# Altium footprint library Connectors_2mm.PcbLib: 81 footprints (part 1 of 6)
Each footprint in its own frame and in the unit in brackets; x right, y up, seen from the top. Pads: shape width x height; smd on the part's side, far side on the other; paste and mask are expansions set on the pad; w line width, h text height; cw(c..) or ccw(c..) is an arc to the next point about the centre after c.
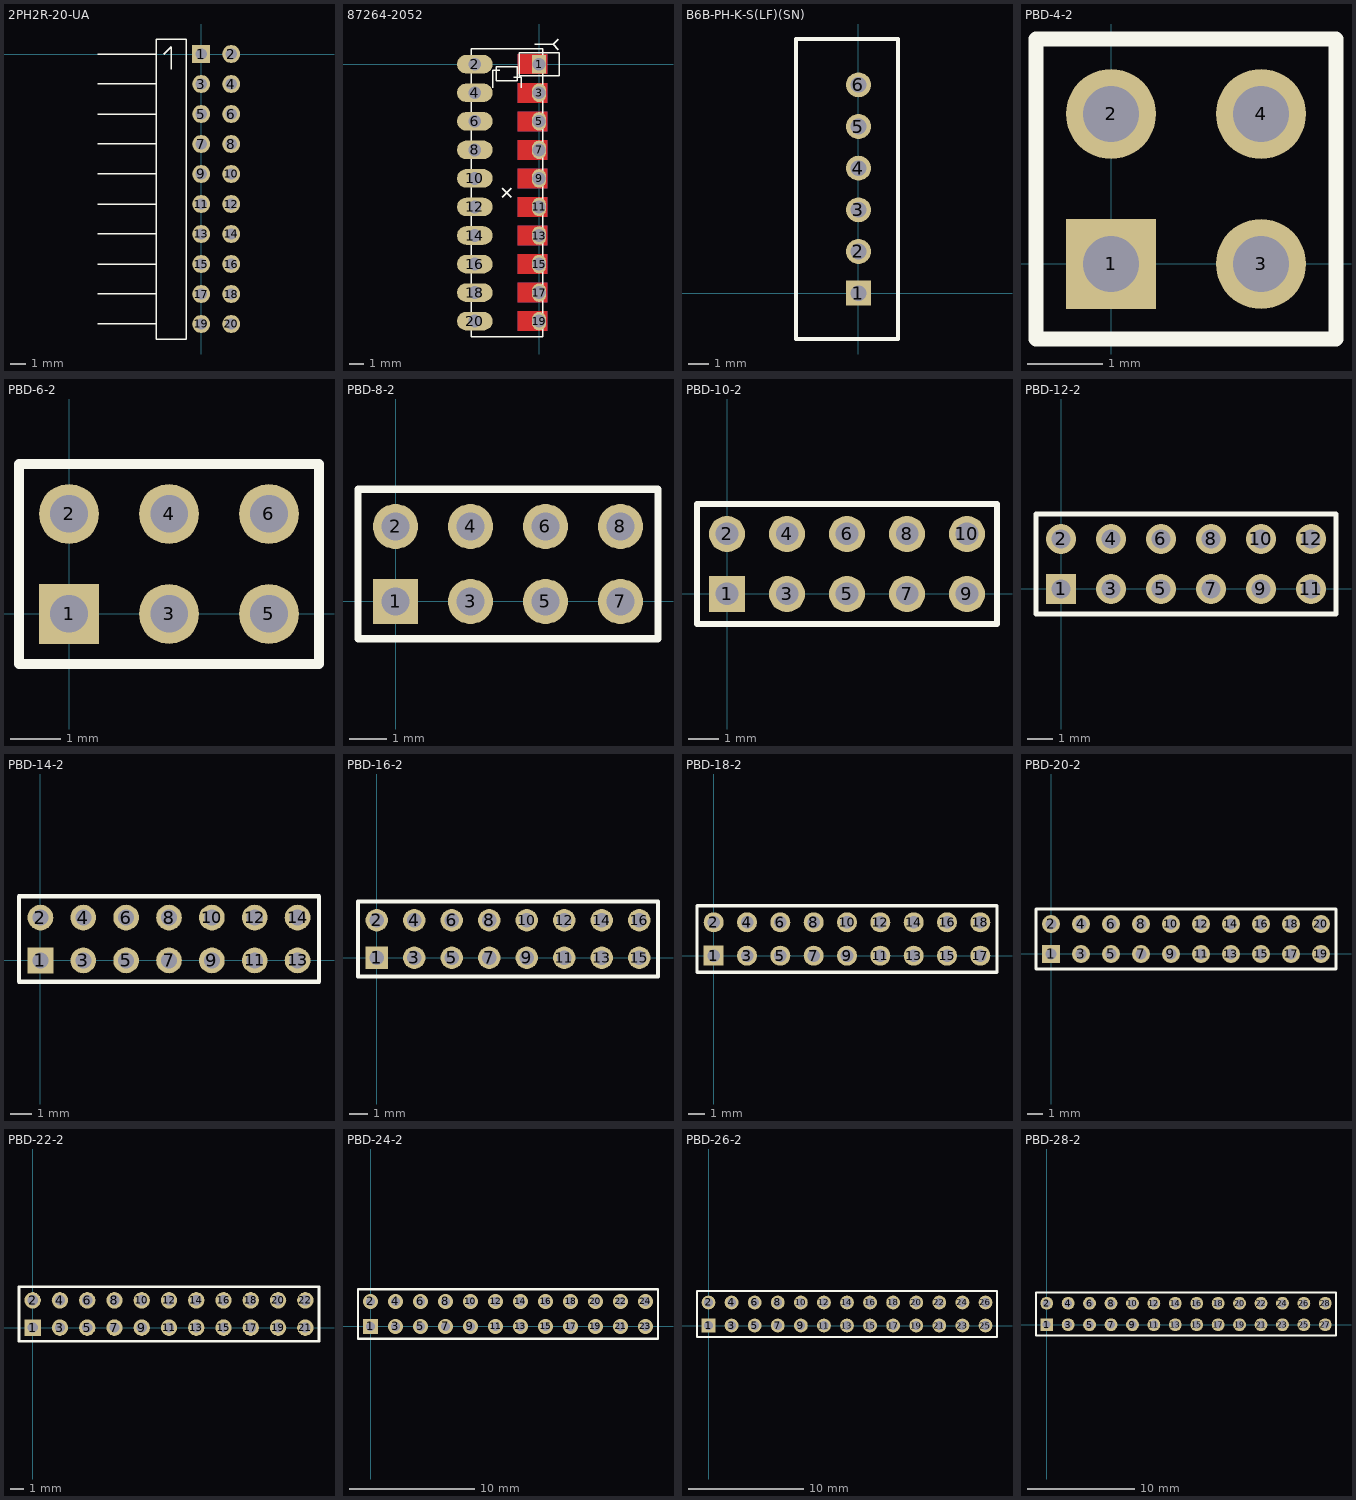
[diagram p0: the footprints below, top view; thin cyan lines are the x and y axes]

## 2PH2R-20-UA [mm]
pads (20):
  rect 1.2x1.2 hole 0.75: 1(0,0)
  round 1.2 hole 0.75: 2(2,0) 3(0,-2) 4(2,-2) 5(0,-4) 6(2,-4) 7(0,-6) 8(2,-6) 9(0,-8) 10(2,-8) 11(0,-10) 12(2,-10) 13(0,-12) 14(2,-12) 15(0,-14) 16(2,-14) 17(0,-16) 18(2,-16) 19(0,-18) 20(2,-18)
Top Overlay:
  lines w0.1: -6.9,-18 -3,-18 ; -6.9,-16 -3,-16 ; -6.9,-14 -3,-14 ; -6.9,-12 -3,-12 ; -6.9,-10 -3,-10 ; -6.9,-8 -3,-8 ; -6.9,-6 -3,-6 ; -6.9,-4 -3,-4 ; -6.9,-2 -3,-2 ; -6.9,0 -3,0 ; -2.5,0 -2,0.5 -2,-1 ; -3,-19 -3,1 -1,1 -1,-19 -3,-19
3D body "2PH2R-20-UA.STEP": height 4, standoff -2.8, extent -6.9,-19 2.25,1

## 87264-2052 [mm]
pads (20):
  rect 1x1.3 hole 0.9: 1(0,0)
  oval 2.5x1.3 hole 0.9: 2(-4.5,0) 4(-4.5,-2) 6(-4.5,-4) 8(-4.5,-6) 10(-4.5,-8) 12(-4.5,-10) 14(-4.5,-12) 16(-4.5,-14) 18(-4.5,-16) 20(-4.5,-18)
  oval 1x1.3 hole 0.9: 3(0,-2) 5(0,-4) 7(0,-6) 9(0,-8) 11(0,-10) 13(0,-12) 15(0,-14) 17(0,-16) 19(0,-18)
Top Layer:
  rectangle: -1.5,-18.7 0.6,-17.3
  rectangle: -1.5,-16.7 0.6,-15.3
  rectangle: -1.5,-14.7 0.6,-13.3
  rectangle: -1.5,-12.7 0.6,-11.3
  rectangle: -1.5,-10.7 0.6,-9.3
  rectangle: -1.5,-8.7 0.6,-7.3
  rectangle: -1.5,-6.7 0.6,-5.3
  rectangle: -1.5,-4.7 0.6,-3.3
  rectangle: -1.5,-0.7 0.6,0.7
  rectangle: -1.5,-2.7 0.6,-1.3
Bottom Layer:
  rectangle: -1.5,-18.7 0.6,-17.3
  rectangle: -1.5,-16.7 0.6,-15.3
  rectangle: -1.5,-14.7 0.6,-13.3
  rectangle: -1.5,-12.7 0.6,-11.3
  rectangle: -1.5,-10.7 0.6,-9.3
  rectangle: -1.5,-8.7 0.6,-7.3
  rectangle: -1.5,-6.7 0.6,-5.3
  rectangle: -1.5,-4.7 0.6,-3.3
  rectangle: -1.5,-0.7 0.6,0.7
  rectangle: -1.5,-2.7 0.6,-1.3
Top Overlay:
  lines w0.1: -3.26,-1.665 -3.26,-0.415 -2.76,-0.415 ; -2.568,-9.317 -1.933,-8.682 ; -2.568,-8.682 -1.933,-9.317 ; -1.76,-0.915 -1.26,-0.915 -1.26,-1.665 ; -0.29,1.385 0.98,1.385 ; 1.361,1.004 0.98,1.385 ; 1.361,1.766 0.98,1.385 ; -4.75,-19.1 -4.75,1.1 0.25,1.1 0.25,-19.1 -4.75,-19.1 ; -3.01,-1.165 -3.01,-0.165 -1.51,-0.165 -1.51,-1.165 -3.01,-1.165 ; -1.4,-0.8 1.4,-0.8 1.4,0.8 -1.4,0.8 -1.4,-0.8
3D body "872642052.stp": height 4, standoff -2.55, extent -4.75,-19.1 0.25,1.1

## B6B-PH-K-S(LF)(SN) [mm]
pads (6):
  rect 1.2x1.2 hole 0.75: 1(0,0)
  round 1.2 hole 0.75: 2(0,2) 3(0,4) 4(0,6) 5(0,8)
  round 1.2 hole 0.75 unplated: 6(0,10)
Top Overlay:
  lines w0.2: -3,-2.2 -3,12.2 1.9,12.2 1.9,-2.2 -3,-2.2
3D body "B6B-PH-K-S(LF)(SN).step": height 6, standoff -3, extent -2.8,-1.95 1.7,11.95
3D body: height 5.83, standoff 0.25, extent 3.5,2 3.5,2

## PBD-4-2 [mm] "Connector; Header; 2x2 Position"
height 4.5
pads (4):
  rect 1.2x1.2 hole 0.75: 1(0,0)
  round 1.2 hole 0.75: 2(0,2) 3(2,0) 4(2,2)
Top Overlay:
  lines w0.2: -1,-1 -1,3 3,3 3,-1 -1,-1
3D body "PBD2mm.stp": height 4.5, standoff -2.7, extent -1,-1 1,3
3D body "PBD2mm.stp": height 4.5, standoff -2.7, extent 1,-1 3,3

## PBD-6-2 [mm] "Connector; Header; 3x2 Position"
height 4.5
pads (6):
  rect 1.2x1.2 hole 0.75: 1(0,0)
  round 1.2 hole 0.75: 2(0,2) 3(2,0) 4(2,2) 5(4,0) 6(4,2)
Top Overlay:
  lines w0.2: -1,-1 5,-1 5,3 -1,3 -1,-1
3D body "PBD2mm.stp": height 4.5, standoff -2.7, extent 3,-1 5,3
3D body "PBD2mm.stp": height 4.5, standoff -2.7, extent 1,-1 3,3
3D body "PBD2mm.stp": height 4.5, standoff -2.7, extent -1,-1 1,3

## PBD-8-2 [mm] "Connector; Header; 4x2 Position"
height 4.5
pads (8):
  rect 1.2x1.2 hole 0.75: 1(0,0)
  round 1.2 hole 0.75: 2(0,2) 3(2,0) 4(2,2) 5(4,0) 6(4,2) 7(6,0) 8(6,2)
Top Overlay:
  lines w0.2: -1,-1 -1,3 7,3 7,-1 -1,-1
3D body "PBD2mm.stp": height 4.5, standoff -2.7, extent -1,-1 1,3
3D body "PBD2mm.stp": height 4.5, standoff -2.7, extent 1,-1 3,3
3D body "PBD2mm.stp": height 4.5, standoff -2.7, extent 3,-1 5,3
3D body "PBD2mm.stp": height 4.5, standoff -2.7, extent 5,-1 7,3

## PBD-10-2 [mm] "Connector; Header; 5x2 Position"
height 4.5
pads (10):
  rect 1.2x1.2 hole 0.75: 1(0,0)
  round 1.2 hole 0.75: 2(0,2) 3(2,0) 4(2,2) 5(4,0) 6(4,2) 7(6,0) 8(6,2) 9(8,0) 10(8,2)
Top Overlay:
  lines w0.2: -1,-1 9,-1 9,3 -1,3 -1,-1
3D body "PBD2mm.stp": height 4.5, standoff -2.7, extent 7,-1 9,3
3D body "PBD2mm.stp": height 4.5, standoff -2.7, extent 5,-1 7,3
3D body "PBD2mm.stp": height 4.5, standoff -2.7, extent 3,-1 5,3
3D body "PBD2mm.stp": height 4.5, standoff -2.7, extent 1,-1 3,3
3D body "PBD2mm.stp": height 4.5, standoff -2.7, extent -1,-1 1,3

## PBD-12-2 [mm] "Connector; Header; 6x2 Position"
height 4.5
pads (12):
  rect 1.2x1.2 hole 0.75: 1(0,0)
  round 1.2 hole 0.75: 2(0,2) 3(2,0) 4(2,2) 5(4,0) 6(4,2) 7(6,0) 8(6,2) 9(8,0) 10(8,2) 11(10,0) 12(10,2)
Top Overlay:
  lines w0.2: -1,-1 -1,3 11,3 11,-1 -1,-1
3D body "PBD2mm.stp": height 4.5, standoff -2.7, extent -1,-1 1,3
3D body "PBD2mm.stp": height 4.5, standoff -2.7, extent 1,-1 3,3
3D body "PBD2mm.stp": height 4.5, standoff -2.7, extent 3,-1 5,3
3D body "PBD2mm.stp": height 4.5, standoff -2.7, extent 5,-1 7,3
3D body "PBD2mm.stp": height 4.5, standoff -2.7, extent 7,-1 9,3
3D body "PBD2mm.stp": height 4.5, standoff -2.7, extent 9,-1 11,3

## PBD-14-2 [mm] "Connector; Header; 7x2 Position"
height 4.5
pads (14):
  rect 1.2x1.2 hole 0.75: 1(0,0)
  round 1.2 hole 0.75: 2(0,2) 3(2,0) 4(2,2) 5(4,0) 6(4,2) 7(6,0) 8(6,2) 9(8,0) 10(8,2) 11(10,0) 12(10,2) 13(12,0) 14(12,2)
Top Overlay:
  lines w0.2: -1,-1 -1,3 13,3 13,-1 -1,-1
3D body "PBD2mm.stp": height 4.5, standoff -2.7, extent -1,-1 1,3
3D body "PBD2mm.stp": height 4.5, standoff -2.7, extent 1,-1 3,3
3D body "PBD2mm.stp": height 4.5, standoff -2.7, extent 3,-1 5,3
3D body "PBD2mm.stp": height 4.5, standoff -2.7, extent 5,-1 7,3
3D body "PBD2mm.stp": height 4.5, standoff -2.7, extent 7,-1 9,3
3D body "PBD2mm.stp": height 4.5, standoff -2.7, extent 9,-1 11,3
3D body "PBD2mm.stp": height 4.5, standoff -2.7, extent 11,-1 13,3

## PBD-16-2 [mm] "Connector; Header; 8x2 Position"
height 4.5
pads (16):
  rect 1.2x1.2 hole 0.75: 1(0,0)
  round 1.2 hole 0.75: 2(0,2) 3(2,0) 4(2,2) 5(4,0) 6(4,2) 7(6,0) 8(6,2) 9(8,0) 10(8,2) 11(10,0) 12(10,2) 13(12,0) 14(12,2) 15(14,0) 16(14,2)
Top Overlay:
  lines w0.2: -1,-1 -1,3 15,3 15,-1 -1,-1
3D body "PBD2mm.stp": height 4.5, standoff -2.7, extent -1,-1 1,3
3D body "PBD2mm.stp": height 4.5, standoff -2.7, extent 1,-1 3,3
3D body "PBD2mm.stp": height 4.5, standoff -2.7, extent 3,-1 5,3
3D body "PBD2mm.stp": height 4.5, standoff -2.7, extent 5,-1 7,3
3D body "PBD2mm.stp": height 4.5, standoff -2.7, extent 7,-1 9,3
3D body "PBD2mm.stp": height 4.5, standoff -2.7, extent 9,-1 11,3
3D body "PBD2mm.stp": height 4.5, standoff -2.7, extent 11,-1 13,3
3D body "PBD2mm.stp": height 4.5, standoff -2.7, extent 13,-1 15,3

## PBD-18-2 [mm] "Connector; Header; 9x2 Position"
height 4.5
pads (18):
  rect 1.2x1.2 hole 0.75: 1(0,0)
  round 1.2 hole 0.75: 2(0,2) 3(2,0) 4(2,2) 5(4,0) 6(4,2) 7(6,0) 8(6,2) 9(8,0) 10(8,2) 11(10,0) 12(10,2) 13(12,0) 14(12,2) 15(14,0) 16(14,2) 17(16,0) 18(16,2)
Top Overlay:
  lines w0.2: -1,-1 -1,3 17,3 17,-1 -1,-1
3D body "PBD2mm.stp": height 4.5, standoff -2.7, extent -1,-1 1,3
3D body "PBD2mm.stp": height 4.5, standoff -2.7, extent 1,-1 3,3
3D body "PBD2mm.stp": height 4.5, standoff -2.7, extent 3,-1 5,3
3D body "PBD2mm.stp": height 4.5, standoff -2.7, extent 5,-1 7,3
3D body "PBD2mm.stp": height 4.5, standoff -2.7, extent 7,-1 9,3
3D body "PBD2mm.stp": height 4.5, standoff -2.7, extent 9,-1 11,3
3D body "PBD2mm.stp": height 4.5, standoff -2.7, extent 11,-1 13,3
3D body "PBD2mm.stp": height 4.5, standoff -2.7, extent 13,-1 15,3
3D body "PBD2mm.stp": height 4.5, standoff -2.7, extent 15,-1 17,3

## PBD-20-2 [mm] "Connector; Header; 10x2 Position"
height 4.5
pads (20):
  rect 1.2x1.2 hole 0.75: 1(0,0)
  round 1.2 hole 0.75: 2(0,2) 3(2,0) 4(2,2) 5(4,0) 6(4,2) 7(6,0) 8(6,2) 9(8,0) 10(8,2) 11(10,0) 12(10,2) 13(12,0) 14(12,2) 15(14,0) 16(14,2) 17(16,0) 18(16,2) 19(18,0) 20(18,2)
Top Overlay:
  lines w0.2: -1,-1 19,-1 19,3 -1,3 -1,-1
3D body "PBD2mm.stp": height 4.5, standoff -2.7, extent 17,-1 19,3
3D body "PBD2mm.stp": height 4.5, standoff -2.7, extent 15,-1 17,3
3D body "PBD2mm.stp": height 4.5, standoff -2.7, extent 13,-1 15,3
3D body "PBD2mm.stp": height 4.5, standoff -2.7, extent 11,-1 13,3
3D body "PBD2mm.stp": height 4.5, standoff -2.7, extent 9,-1 11,3
3D body "PBD2mm.stp": height 4.5, standoff -2.7, extent 7,-1 9,3
3D body "PBD2mm.stp": height 4.5, standoff -2.7, extent 5,-1 7,3
3D body "PBD2mm.stp": height 4.5, standoff -2.7, extent 3,-1 5,3
3D body "PBD2mm.stp": height 4.5, standoff -2.7, extent 1,-1 3,3
3D body "PBD2mm.stp": height 4.5, standoff -2.7, extent -1,-1 1,3

## PBD-22-2 [mm] "Connector; Header; 11x2 Position"
height 4.5
pads (22):
  rect 1.2x1.2 hole 0.75: 1(0,0)
  round 1.2 hole 0.75: 2(0,2) 3(2,0) 4(2,2) 5(4,0) 6(4,2) 7(6,0) 8(6,2) 9(8,0) 10(8,2) 11(10,0) 12(10,2) 13(12,0) 14(12,2) 15(14,0) 16(14,2) 17(16,0) 18(16,2) 19(18,0) 20(18,2) 21(20,0) 22(20,2)
Top Overlay:
  lines w0.2: -1,-1 -1,3 21,3 21,-1 -1,-1
3D body "PBD2mm.stp": height 4.5, standoff -2.7, extent -1,-1 1,3
3D body "PBD2mm.stp": height 4.5, standoff -2.7, extent 1,-1 3,3
3D body "PBD2mm.stp": height 4.5, standoff -2.7, extent 3,-1 5,3
3D body "PBD2mm.stp": height 4.5, standoff -2.7, extent 5,-1 7,3
3D body "PBD2mm.stp": height 4.5, standoff -2.7, extent 7,-1 9,3
3D body "PBD2mm.stp": height 4.5, standoff -2.7, extent 9,-1 11,3
3D body "PBD2mm.stp": height 4.5, standoff -2.7, extent 11,-1 13,3
3D body "PBD2mm.stp": height 4.5, standoff -2.7, extent 13,-1 15,3
3D body "PBD2mm.stp": height 4.5, standoff -2.7, extent 15,-1 17,3
3D body "PBD2mm.stp": height 4.5, standoff -2.7, extent 17,-1 19,3
3D body "PBD2mm.stp": height 4.5, standoff -2.7, extent 19,-1 21,3

## PBD-24-2 [mm] "Connector; Header; 12x2 Position"
height 4.5
pads (24):
  rect 1.2x1.2 hole 0.75: 1(0,0)
  round 1.2 hole 0.75: 2(0,2) 3(2,0) 4(2,2) 5(4,0) 6(4,2) 7(6,0) 8(6,2) 9(8,0) 10(8,2) 11(10,0) 12(10,2) 13(12,0) 14(12,2) 15(14,0) 16(14,2) 17(16,0) 18(16,2) 19(18,0) 20(18,2) 21(20,0) 22(20,2) 23(22,0) 24(22,2)
Top Overlay:
  lines w0.2: -1,-1 23,-1 23,3 -1,3 -1,-1
3D body "PBD2mm.stp": height 4.5, standoff -2.7, extent 21,-1 23,3
3D body "PBD2mm.stp": height 4.5, standoff -2.7, extent 19,-1 21,3
3D body "PBD2mm.stp": height 4.5, standoff -2.7, extent 17,-1 19,3
3D body "PBD2mm.stp": height 4.5, standoff -2.7, extent 15,-1 17,3
3D body "PBD2mm.stp": height 4.5, standoff -2.7, extent 13,-1 15,3
3D body "PBD2mm.stp": height 4.5, standoff -2.7, extent 11,-1 13,3
3D body "PBD2mm.stp": height 4.5, standoff -2.7, extent 9,-1 11,3
3D body "PBD2mm.stp": height 4.5, standoff -2.7, extent 7,-1 9,3
3D body "PBD2mm.stp": height 4.5, standoff -2.7, extent 5,-1 7,3
3D body "PBD2mm.stp": height 4.5, standoff -2.7, extent 3,-1 5,3
3D body "PBD2mm.stp": height 4.5, standoff -2.7, extent 1,-1 3,3
3D body "PBD2mm.stp": height 4.5, standoff -2.7, extent -1,-1 1,3

## PBD-26-2 [mm] "Connector; Header; 13x2 Position"
height 4.5
pads (26):
  rect 1.2x1.2 hole 0.75: 1(0,0)
  round 1.2 hole 0.75: 2(0,2) 3(2,0) 4(2,2) 5(4,0) 6(4,2) 7(6,0) 8(6,2) 9(8,0) 10(8,2) 11(10,0) 12(10,2) 13(12,0) 14(12,2) 15(14,0) 16(14,2) 17(16,0) 18(16,2) 19(18,0) 20(18,2) 21(20,0) 22(20,2) 23(22,0) 24(22,2) 25(24,0) 26(24,2)
Top Overlay:
  lines w0.2: -1,-1 -1,3 25,3 25,-1 -1,-1
3D body "PBD2mm.stp": height 4.5, standoff -2.7, extent -1,-1 1,3
3D body "PBD2mm.stp": height 4.5, standoff -2.7, extent 1,-1 3,3
3D body "PBD2mm.stp": height 4.5, standoff -2.7, extent 3,-1 5,3
3D body "PBD2mm.stp": height 4.5, standoff -2.7, extent 5,-1 7,3
3D body "PBD2mm.stp": height 4.5, standoff -2.7, extent 7,-1 9,3
3D body "PBD2mm.stp": height 4.5, standoff -2.7, extent 9,-1 11,3
3D body "PBD2mm.stp": height 4.5, standoff -2.7, extent 11,-1 13,3
3D body "PBD2mm.stp": height 4.5, standoff -2.7, extent 13,-1 15,3
3D body "PBD2mm.stp": height 4.5, standoff -2.7, extent 15,-1 17,3
3D body "PBD2mm.stp": height 4.5, standoff -2.7, extent 17,-1 19,3
3D body "PBD2mm.stp": height 4.5, standoff -2.7, extent 19,-1 21,3
3D body "PBD2mm.stp": height 4.5, standoff -2.7, extent 21,-1 23,3
3D body "PBD2mm.stp": height 4.5, standoff -2.7, extent 23,-1 25,3

## PBD-28-2 [mm] "Connector; Header; 14x2 Position"
height 4.5
pads (28):
  rect 1.2x1.2 hole 0.75: 1(0,0)
  round 1.2 hole 0.75: 2(0,2) 3(2,0) 4(2,2) 5(4,0) 6(4,2) 7(6,0) 8(6,2) 9(8,0) 10(8,2) 11(10,0) 12(10,2) 13(12,0) 14(12,2) 15(14,0) 16(14,2) 17(16,0) 18(16,2) 19(18,0) 20(18,2) 21(20,0) 22(20,2) 23(22,0) 24(22,2) 25(24,0) 26(24,2) 27(26,0) 28(26,2)
Top Overlay:
  lines w0.2: -1,-1 27,-1 27,3 -1,3 -1,-1
3D body "PBD2mm.stp": height 4.5, standoff -2.7, extent 25,-1 27,3
3D body "PBD2mm.stp": height 4.5, standoff -2.7, extent 23,-1 25,3
3D body "PBD2mm.stp": height 4.5, standoff -2.7, extent 21,-1 23,3
3D body "PBD2mm.stp": height 4.5, standoff -2.7, extent 19,-1 21,3
3D body "PBD2mm.stp": height 4.5, standoff -2.7, extent 17,-1 19,3
3D body "PBD2mm.stp": height 4.5, standoff -2.7, extent 15,-1 17,3
3D body "PBD2mm.stp": height 4.5, standoff -2.7, extent 13,-1 15,3
3D body "PBD2mm.stp": height 4.5, standoff -2.7, extent 11,-1 13,3
3D body "PBD2mm.stp": height 4.5, standoff -2.7, extent 9,-1 11,3
3D body "PBD2mm.stp": height 4.5, standoff -2.7, extent 7,-1 9,3
3D body "PBD2mm.stp": height 4.5, standoff -2.7, extent 5,-1 7,3
3D body "PBD2mm.stp": height 4.5, standoff -2.7, extent 3,-1 5,3
3D body "PBD2mm.stp": height 4.5, standoff -2.7, extent 1,-1 3,3
3D body "PBD2mm.stp": height 4.5, standoff -2.7, extent -1,-1 1,3